# EAGLE library part MAX6250 (library ardustat)
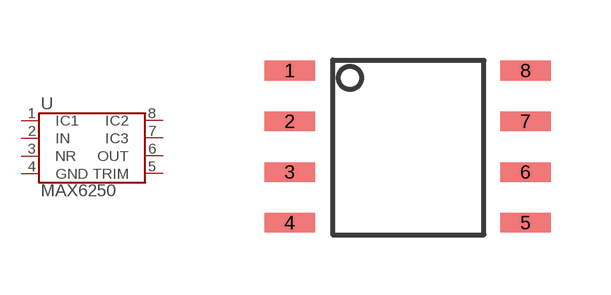
[diagram p9: symbol with the pads of MAX6250; footprint MAX6250]

Designator prefix -

## MAX6250MAX6250  [MAX6250]
1  IC1
2  IN
3  NR
4  GND
5  TRIM
6  OUT
7  IC3
8  IC2

## Footprint MAX6250 (pad centres in mm)
smd 1.27 x 0.49: 1 -3.012,1.903; 2 -3.012,0.633; 3 -3.012,-0.637; 4 -3.012,-1.907; 5 2.888,-1.907; 6 2.888,-0.637; 7 2.888,0.633; 8 2.888,1.903